# Altium schematic symbol library lm5050.SchLib: 2 symbols
Pins are listed as number, name and electrical type; pins without a type are passive.

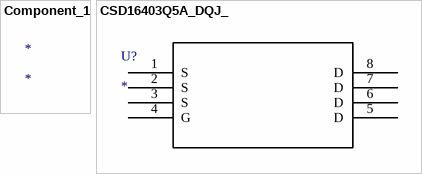
[diagram p0: symbols Component_1 to CSD16403Q5A_DQJ_]

## Component_1
designator *

## CSD16403Q5A_DQJ_
designator U?
Imported; Manufacturer: Texas Instruments; GENERIC_PART_NUMBER: CSD16403Q5A; INDUSTRY_STD_PKG_TYPE: SON; FAMILY_NAME: N-Channel MOSFET Transistors; PIN_COUNT: 8; PACKAGE_DESIGNATOR: DQJ; Datasheet URL: http://www.ti.com/lit/gpn/CSD16403Q5A; RefDes: RefDes; Type: DEV; Value: Value
footprint DQJ8
pins: 1 S, 2 S, 3 S, 4 G, 5 D, 6 D, 7 D, 8 D